# Altium integrated library Texas Instruments Interface RS-422.IntLib: 548 symbols (part 11 of 15)
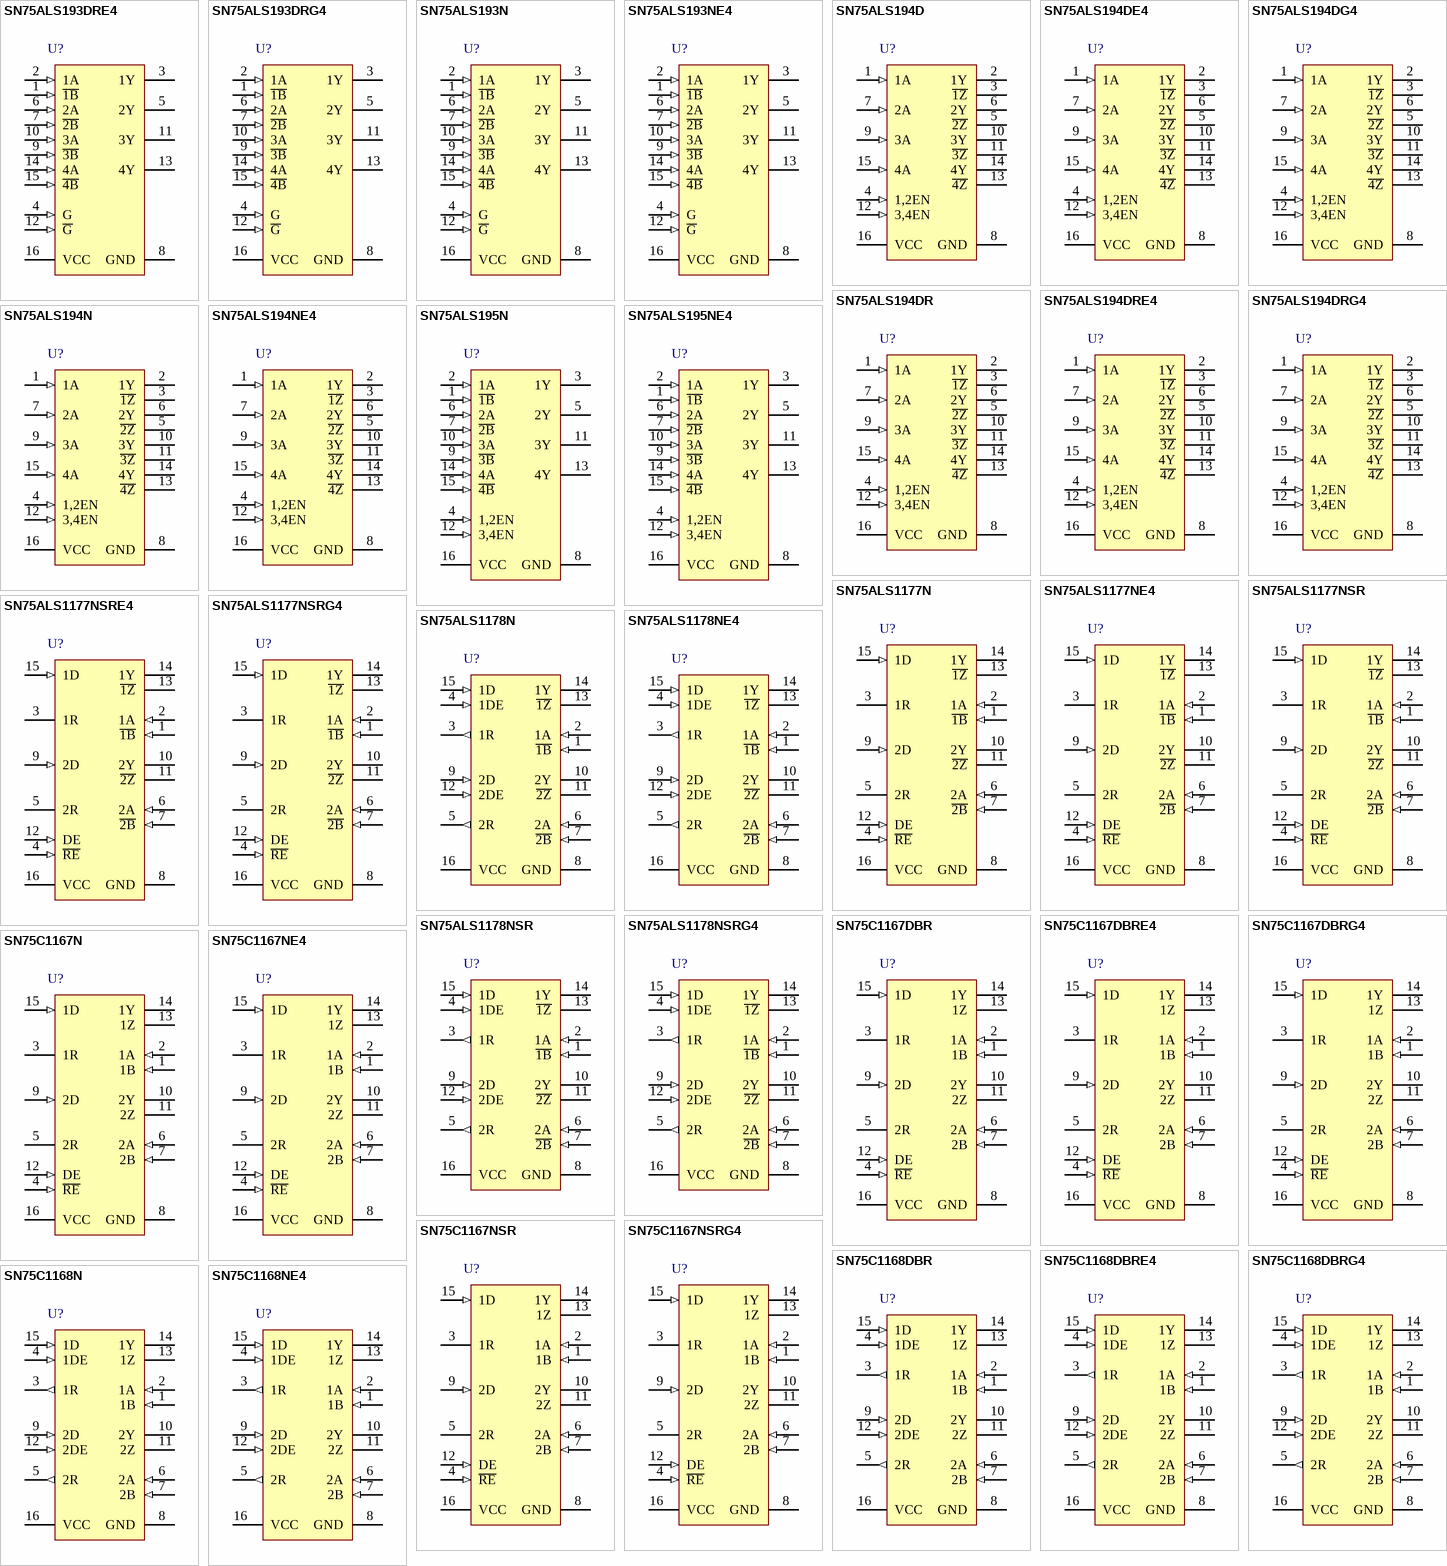
[diagram p25: symbols SN75ALS193DRE4 to SN75C1168NE4]

## SN75ALS1177NSRE4
designator U?
Dual Differential Driver and Receiver, 2 TX / 2 RX, 5V, 0 to 70 degC, 16-Pin SO (NS), Pb-Free (RoHS); PartNumber: SN75ALS1177NSRE4; Manufacturer: Texas Instruments; SubFamily: RS-422; Drivers Per Package: 2; ICC(Max)(mA): 50; Supply Voltage(s)(V): 5; Isolated: No; Rating: Catalog; DatasheetVersion: SLLS154B; PackageVersion: revC, Mar-2003; PackageReference: NS16; PackageDescription: 16-Pin Plastic Small Outline Package, 10.2 x 5.3 mm, Pitch 1.27 mm Pitch; Mounting Technology: Surface Mount; Eco-Plan: Pb-Free (RoHS); Receivers Per Package: 2; # of TX/RX: 2 TX / 2 RX; ESD(kV): 2; Footprint: MC34050; ComponentLink1Description: Datasheet; ComponentLink1URL: http://www.ti.com/general/docs/lit/getliterature.tsp?genericPartNumber=SN75ALS1177&fileType=pdf; ComponentLink2Description: Package Specification; ComponentLink2URL: http://www.ti.com/litv/pdf/msop002a
footprint NS16_N (SOP, 16-Leads, Body 10.2x5.3mm, Pitch 1.27mm, IPC Medium Density)
footprint NS16_L (SOP, 16-Leads, Body 10.2x5.3mm, Pitch 1.27mm, IPC High Density)
footprint NS16_M (SOP, 16-Leads, Body 10.2x5.3mm, Pitch 1.27mm, IPC Low Density)
pins: 1 ~{1B} (in), 2 1A (in), 3 1R (hiz), 4 ~{RE} (in), 5 2R (hiz), 6 2A (in), 7 ~{2B} (in), 8 GND (power), 9 2D (in), 10 2Y (hiz), 11 ~{2Z} (hiz), 12 DE (in), 13 ~{1Z} (hiz), 14 1Y (hiz), 15 1D (in), 16 VCC (power)

## SN75ALS1177NSRG4
designator U?
Dual Differential Driver and Receiver, 2 TX / 2 RX, 5V, 0 to 70 degC, 16-Pin SO (NS), Pb-Free (RoHS); PartNumber: SN75ALS1177NSRG4; Manufacturer: Texas Instruments; SubFamily: RS-422; Drivers Per Package: 2; ICC(Max)(mA): 50; Supply Voltage(s)(V): 5; Isolated: No; Rating: Catalog; DatasheetVersion: SLLS154B; PackageVersion: revC, Mar-2003; PackageReference: NS16; PackageDescription: 16-Pin Plastic Small Outline Package, 10.2 x 5.3 mm, Pitch 1.27 mm Pitch; Mounting Technology: Surface Mount; Eco-Plan: Pb-Free (RoHS); Receivers Per Package: 2; # of TX/RX: 2 TX / 2 RX; ESD(kV): 2; Footprint: MC34050; ComponentLink1Description: Datasheet; ComponentLink1URL: http://www.ti.com/general/docs/lit/getliterature.tsp?genericPartNumber=SN75ALS1177&fileType=pdf; ComponentLink2Description: Package Specification; ComponentLink2URL: http://www.ti.com/litv/pdf/msop002a
footprint NS16_N (SOP, 16-Leads, Body 10.2x5.3mm, Pitch 1.27mm, IPC Medium Density)
footprint NS16_L (SOP, 16-Leads, Body 10.2x5.3mm, Pitch 1.27mm, IPC High Density)
footprint NS16_M (SOP, 16-Leads, Body 10.2x5.3mm, Pitch 1.27mm, IPC Low Density)
pins: 1 ~{1B} (in), 2 1A (in), 3 1R (hiz), 4 ~{RE} (in), 5 2R (hiz), 6 2A (in), 7 ~{2B} (in), 8 GND (power), 9 2D (in), 10 2Y (hiz), 11 ~{2Z} (hiz), 12 DE (in), 13 ~{1Z} (hiz), 14 1Y (hiz), 15 1D (in), 16 VCC (power)

## SN75ALS1178N
designator U?
Dual Differential Driver and Receiver, 2 TX / 2 RX, 5V, 0 to 70 degC, 16-Pin PDIP (N), Pb-Free (RoHS); PartNumber: SN75ALS1178N; Manufacturer: Texas Instruments; SubFamily: RS-422; Drivers Per Package: 2; ICC(Max)(mA): 50; Supply Voltage(s)(V): 5; Isolated: No; Rating: Catalog; DatasheetVersion: SLLS154B; PackageVersion: revE, Dec-2002; PackageReference: N16; PackageDescription: 16-Pin Plastic Dual-In-Line Package, Row Spacing 7.62 mm, Pitch 2.54 mm; Mounting Technology: Through-hole; Eco-Plan: Pb-Free (RoHS); Receivers Per Package: 2; # of TX/RX: 2 TX / 2 RX; ESD(kV): 2; Footprint: MC34051; Code_JEDEC: MS-001*; ComponentLink1Description: Datasheet; ComponentLink1URL: http://www.ti.com/general/docs/lit/getliterature.tsp?genericPartNumber=SN75ALS1178&fileType=pdf; ComponentLink2Description: Package Specification; ComponentLink2URL: http://www.ti.com/lit/ml/mpdi002c/mpdi002c.pdf
footprint N16 (DIP, 16-Leads, Row Spacing 7.62mm, Pitch 2.54mm, Body 19.3x6.4mm)
pins: 1 ~{1B} (in), 2 1A (in), 3 1R (out), 4 1DE (in), 5 2R (out), 6 2A (in), 7 ~{2B} (in), 8 GND (power), 9 2D (in), 10 2Y (hiz), 11 ~{2Z} (hiz), 12 2DE (in), 13 ~{1Z} (hiz), 14 1Y (hiz), 15 1D (in), 16 VCC (power)

## SN75ALS1178NE4
designator U?
Dual Differential Driver and Receiver, 2 TX / 2 RX, 5V, 0 to 70 degC, 16-Pin PDIP (N), Pb-Free (RoHS); PartNumber: SN75ALS1178NE4; Manufacturer: Texas Instruments; SubFamily: RS-422; Drivers Per Package: 2; ICC(Max)(mA): 50; Supply Voltage(s)(V): 5; Isolated: No; Rating: Catalog; DatasheetVersion: SLLS154B; PackageVersion: revE, Dec-2002; PackageReference: N16; PackageDescription: 16-Pin Plastic Dual-In-Line Package, Row Spacing 7.62 mm, Pitch 2.54 mm; Mounting Technology: Through-hole; Eco-Plan: Pb-Free (RoHS); Receivers Per Package: 2; # of TX/RX: 2 TX / 2 RX; ESD(kV): 2; Footprint: MC34051; Code_JEDEC: MS-001*; ComponentLink1Description: Datasheet; ComponentLink1URL: http://www.ti.com/general/docs/lit/getliterature.tsp?genericPartNumber=SN75ALS1178&fileType=pdf; ComponentLink2Description: Package Specification; ComponentLink2URL: http://www.ti.com/lit/ml/mpdi002c/mpdi002c.pdf
footprint N16 (DIP, 16-Leads, Row Spacing 7.62mm, Pitch 2.54mm, Body 19.3x6.4mm)
pins: 1 ~{1B} (in), 2 1A (in), 3 1R (out), 4 1DE (in), 5 2R (out), 6 2A (in), 7 ~{2B} (in), 8 GND (power), 9 2D (in), 10 2Y (hiz), 11 ~{2Z} (hiz), 12 2DE (in), 13 ~{1Z} (hiz), 14 1Y (hiz), 15 1D (in), 16 VCC (power)

## SN75ALS1178NSR
designator U?
Dual Differential Driver and Receiver, 2 TX / 2 RX, 5V, 0 to 70 degC, 16-Pin SO (NS), Green (RoHS & no Sb/Br); PartNumber: SN75ALS1178NSR; Manufacturer: Texas Instruments; Eco-Plan: Pb-Free (RoHS); SubFamily: RS-422; Drivers Per Package: 2; ICC(Max)(mA): 50; Supply Voltage(s)(V): 5; Rating: Catalog; DatasheetVersion: SLLS154B; PackageVersion: revC, Mar-2003; PackageReference: NS16; PackageDescription: 16-Pin Plastic Small Outline Package, 10.2 x 5.3 mm, Pitch 1.27 mm Pitch; Mounting Technology: Surface Mount; Receivers Per Package: 2; # of TX/RX: 2 TX / 2 RX; ESD(kV): 2; Footprint: MC34051; Isolated: No; ComponentLink1Description: Datasheet; ComponentLink1URL: http://www.ti.com/general/docs/lit/getliterature.tsp?genericPartNumber=SN75ALS1178&fileType=pdf; ComponentLink2Description: Package Specification; ComponentLink2URL: http://www.ti.com/litv/pdf/msop002a
footprint NS16_N (SOP, 16-Leads, Body 10.2x5.3mm, Pitch 1.27mm, IPC Medium Density)
footprint NS16_L (SOP, 16-Leads, Body 10.2x5.3mm, Pitch 1.27mm, IPC High Density)
footprint NS16_M (SOP, 16-Leads, Body 10.2x5.3mm, Pitch 1.27mm, IPC Low Density)
pins: 1 ~{1B} (in), 2 1A (in), 3 1R (out), 4 1DE (in), 5 2R (out), 6 2A (in), 7 ~{2B} (in), 8 GND (power), 9 2D (in), 10 2Y (hiz), 11 ~{2Z} (hiz), 12 2DE (in), 13 ~{1Z} (hiz), 14 1Y (hiz), 15 1D (in), 16 VCC (power)

## SN75ALS1178NSRG4
designator U?
Dual Differential Driver and Receiver, 2 TX / 2 RX, 5V, 0 to 70 degC, 16-Pin SO (NS), Green (RoHS & no Sb/Br); PartNumber: SN75ALS1178NSRG4; Manufacturer: Texas Instruments; Eco-Plan: Pb-Free (RoHS); SubFamily: RS-422; Drivers Per Package: 2; ICC(Max)(mA): 50; Supply Voltage(s)(V): 5; Rating: Catalog; DatasheetVersion: SLLS154B; PackageVersion: revC, Mar-2003; PackageReference: NS16; PackageDescription: 16-Pin Plastic Small Outline Package, 10.2 x 5.3 mm, Pitch 1.27 mm Pitch; Mounting Technology: Surface Mount; Receivers Per Package: 2; # of TX/RX: 2 TX / 2 RX; ESD(kV): 2; Footprint: MC34051; Isolated: No; ComponentLink1Description: Datasheet; ComponentLink1URL: http://www.ti.com/general/docs/lit/getliterature.tsp?genericPartNumber=SN75ALS1178&fileType=pdf; ComponentLink2Description: Package Specification; ComponentLink2URL: http://www.ti.com/litv/pdf/msop002a
footprint NS16_N (SOP, 16-Leads, Body 10.2x5.3mm, Pitch 1.27mm, IPC Medium Density)
footprint NS16_L (SOP, 16-Leads, Body 10.2x5.3mm, Pitch 1.27mm, IPC High Density)
footprint NS16_M (SOP, 16-Leads, Body 10.2x5.3mm, Pitch 1.27mm, IPC Low Density)
pins: 1 ~{1B} (in), 2 1A (in), 3 1R (out), 4 1DE (in), 5 2R (out), 6 2A (in), 7 ~{2B} (in), 8 GND (power), 9 2D (in), 10 2Y (hiz), 11 ~{2Z} (hiz), 12 2DE (in), 13 ~{1Z} (hiz), 14 1Y (hiz), 15 1D (in), 16 VCC (power)

## SN75C1167DBR
designator U?
Dual Differential Driver and Receiver, 2 TX / 2 RX, 5V, 0 to 70 degC, 16-Pin SSOP (DB), Green (RoHS & no Sb/Br); PartNumber: SN75C1167DBR; Manufacturer: Texas Instruments; SubFamily: RS-422; Drivers Per Package: 2; ICC(Max)(mA): 9; Supply Voltage(s)(V): 5; Rating: Catalog; DatasheetVersion: SLLS159F; PackageVersion: revE, Dec-2001; PackageReference: DB16; PackageDescription: 16-Pin Plastic Small Outline Package, 6.2 x 5.3 mm Body, 0.65 mm Pitch; Mounting Technology: Surface Mount; Eco-Plan: Green (RoHS & no Sb/Br); Receivers Per Package: 2; # of TX/RX: 2 TX / 2 RX; ESD(kV): 2; Footprint: MC34050; Code_JEDEC: MO-150; ComponentLink1Description: Datasheet; ComponentLink1URL: http://www.ti.com/general/docs/lit/getliterature.tsp?genericPartNumber=SN75C1167&fileType=pdf; ComponentLink2Description: Package Specification; ComponentLink2URL: http://www.ti.com/lit/ml/msso002e/msso002e.pdf
footprint DB16_N (SOP, 16-Leads, Body 6.2x5.3mm, Pitch 0.65mm, IPC Medium Density)
footprint DB16_L (SOP, 16-Leads, Body 6.2x5.3mm, Pitch 0.65mm, IPC High Density)
footprint DB16_M (SOP, 16-Leads, Body 6.2x5.3mm, Pitch 0.65mm, IPC Low Density)
pins: 1 1B (in), 2 1A (in), 3 1R (hiz), 4 ~{RE} (in), 5 2R (hiz), 6 2A (in), 7 2B (in), 8 GND (power), 9 2D (in), 10 2Y (hiz), 11 2Z (hiz), 12 DE (in), 13 1Z (hiz), 14 1Y (hiz), 15 1D (in), 16 VCC (power)

## SN75C1167DBRE4
designator U?
Dual Differential Driver and Receiver, 2 TX / 2 RX, 5V, 0 to 70 degC, 16-Pin SSOP (DB), Green (RoHS & no Sb/Br); PartNumber: SN75C1167DBRE4; Manufacturer: Texas Instruments; SubFamily: RS-422; Drivers Per Package: 2; ICC(Max)(mA): 9; Supply Voltage(s)(V): 5; Rating: Catalog; DatasheetVersion: SLLS159F; PackageVersion: revE, Dec-2001; PackageReference: DB16; PackageDescription: 16-Pin Plastic Small Outline Package, 6.2 x 5.3 mm Body, 0.65 mm Pitch; Mounting Technology: Surface Mount; Eco-Plan: Green (RoHS & no Sb/Br); Receivers Per Package: 2; # of TX/RX: 2 TX / 2 RX; ESD(kV): 2; Footprint: MC34050; Code_JEDEC: MO-150; ComponentLink1Description: Datasheet; ComponentLink1URL: http://www.ti.com/general/docs/lit/getliterature.tsp?genericPartNumber=SN75C1167&fileType=pdf; ComponentLink2Description: Package Specification; ComponentLink2URL: http://www.ti.com/lit/ml/msso002e/msso002e.pdf
footprint DB16_N (SOP, 16-Leads, Body 6.2x5.3mm, Pitch 0.65mm, IPC Medium Density)
footprint DB16_L (SOP, 16-Leads, Body 6.2x5.3mm, Pitch 0.65mm, IPC High Density)
footprint DB16_M (SOP, 16-Leads, Body 6.2x5.3mm, Pitch 0.65mm, IPC Low Density)
pins: 1 1B (in), 2 1A (in), 3 1R (hiz), 4 ~{RE} (in), 5 2R (hiz), 6 2A (in), 7 2B (in), 8 GND (power), 9 2D (in), 10 2Y (hiz), 11 2Z (hiz), 12 DE (in), 13 1Z (hiz), 14 1Y (hiz), 15 1D (in), 16 VCC (power)

## SN75C1167DBRG4
designator U?
Dual Differential Driver and Receiver, 2 TX / 2 RX, 5V, 0 to 70 degC, 16-Pin SSOP (DB), Green (RoHS & no Sb/Br); PartNumber: SN75C1167DBRG4; Manufacturer: Texas Instruments; SubFamily: RS-422; Drivers Per Package: 2; ICC(Max)(mA): 9; Supply Voltage(s)(V): 5; Rating: Catalog; DatasheetVersion: SLLS159F; PackageVersion: revE, Dec-2001; PackageReference: DB16; PackageDescription: 16-Pin Plastic Small Outline Package, 6.2 x 5.3 mm Body, 0.65 mm Pitch; Mounting Technology: Surface Mount; Eco-Plan: Green (RoHS & no Sb/Br); Receivers Per Package: 2; # of TX/RX: 2 TX / 2 RX; ESD(kV): 2; Footprint: MC34050; Code_JEDEC: MO-150; ComponentLink1Description: Datasheet; ComponentLink1URL: http://www.ti.com/general/docs/lit/getliterature.tsp?genericPartNumber=SN75C1167&fileType=pdf; ComponentLink2Description: Package Specification; ComponentLink2URL: http://www.ti.com/lit/ml/msso002e/msso002e.pdf
footprint DB16_N (SOP, 16-Leads, Body 6.2x5.3mm, Pitch 0.65mm, IPC Medium Density)
footprint DB16_L (SOP, 16-Leads, Body 6.2x5.3mm, Pitch 0.65mm, IPC High Density)
footprint DB16_M (SOP, 16-Leads, Body 6.2x5.3mm, Pitch 0.65mm, IPC Low Density)
pins: 1 1B (in), 2 1A (in), 3 1R (hiz), 4 ~{RE} (in), 5 2R (hiz), 6 2A (in), 7 2B (in), 8 GND (power), 9 2D (in), 10 2Y (hiz), 11 2Z (hiz), 12 DE (in), 13 1Z (hiz), 14 1Y (hiz), 15 1D (in), 16 VCC (power)

## SN75C1167N
designator U?
Dual Differential Driver and Receiver, 2 TX / 2 RX, 5V, 0 to 70 degC, 16-Pin PDIP (N), Green (RoHS & no Sb/Br); PartNumber: SN75C1167N; Manufacturer: Texas Instruments; SubFamily: RS-422; Drivers Per Package: 2; ICC(Max)(mA): 9; Supply Voltage(s)(V): 5; Rating: Catalog; DatasheetVersion: SLLS159F; PackageVersion: revE, Dec-2002; PackageReference: N16; PackageDescription: 16-Pin Plastic Dual-In-Line Package, Row Spacing 7.62 mm, Pitch 2.54 mm; Mounting Technology: Through-hole; Eco-Plan: Green (RoHS & no Sb/Br); Receivers Per Package: 2; # of TX/RX: 2 TX / 2 RX; ESD(kV): 2; Footprint: MC34050; Code_JEDEC: MS-001*; ComponentLink1Description: Datasheet; ComponentLink1URL: http://www.ti.com/general/docs/lit/getliterature.tsp?genericPartNumber=SN75C1167&fileType=pdf; ComponentLink2Description: Package Specification; ComponentLink2URL: http://www.ti.com/lit/ml/mpdi002c/mpdi002c.pdf
footprint N16 (DIP, 16-Leads, Row Spacing 7.62mm, Pitch 2.54mm, Body 19.3x6.4mm)
pins: 1 1B (in), 2 1A (in), 3 1R (hiz), 4 ~{RE} (in), 5 2R (hiz), 6 2A (in), 7 2B (in), 8 GND (power), 9 2D (in), 10 2Y (hiz), 11 2Z (hiz), 12 DE (in), 13 1Z (hiz), 14 1Y (hiz), 15 1D (in), 16 VCC (power)

## SN75C1167NE4
designator U?
Dual Differential Driver and Receiver, 2 TX / 2 RX, 5V, 0 to 70 degC, 16-Pin PDIP (N), Green (RoHS & no Sb/Br); PartNumber: SN75C1167NE4; Manufacturer: Texas Instruments; SubFamily: RS-422; Drivers Per Package: 2; ICC(Max)(mA): 9; Supply Voltage(s)(V): 5; Rating: Catalog; DatasheetVersion: SLLS159F; PackageVersion: revE, Dec-2002; PackageReference: N16; PackageDescription: 16-Pin Plastic Dual-In-Line Package, Row Spacing 7.62 mm, Pitch 2.54 mm; Mounting Technology: Through-hole; Eco-Plan: Green (RoHS & no Sb/Br); Receivers Per Package: 2; # of TX/RX: 2 TX / 2 RX; ESD(kV): 2; Footprint: MC34050; Code_JEDEC: MS-001*; ComponentLink1Description: Datasheet; ComponentLink1URL: http://www.ti.com/general/docs/lit/getliterature.tsp?genericPartNumber=SN75C1167&fileType=pdf; ComponentLink2Description: Package Specification; ComponentLink2URL: http://www.ti.com/lit/ml/mpdi002c/mpdi002c.pdf
footprint N16 (DIP, 16-Leads, Row Spacing 7.62mm, Pitch 2.54mm, Body 19.3x6.4mm)
pins: 1 1B (in), 2 1A (in), 3 1R (hiz), 4 ~{RE} (in), 5 2R (hiz), 6 2A (in), 7 2B (in), 8 GND (power), 9 2D (in), 10 2Y (hiz), 11 2Z (hiz), 12 DE (in), 13 1Z (hiz), 14 1Y (hiz), 15 1D (in), 16 VCC (power)

## SN75C1167NSR
designator U?
Dual Differential Driver and Receiver, 2 TX / 2 RX, 5V, 0 to 70 degC, 16-Pin SO (NS), Green (RoHS & no Sb/Br); PartNumber: SN75C1167NSR; Manufacturer: Texas Instruments; SubFamily: RS-422; Drivers Per Package: 2; ICC(Max)(mA): 9; Supply Voltage(s)(V): 5; Rating: Catalog; DatasheetVersion: SLLS159F; PackageVersion: revC, Mar-2003; PackageReference: NS16; PackageDescription: 16-Pin Plastic Small Outline Package, 10.2 x 5.3 mm, Pitch 1.27 mm Pitch; Mounting Technology: Surface Mount; Eco-Plan: Green (RoHS & no Sb/Br); Receivers Per Package: 2; # of TX/RX: 2 TX / 2 RX; ESD(kV): 2; Footprint: MC34050; ComponentLink1Description: Datasheet; ComponentLink1URL: http://www.ti.com/general/docs/lit/getliterature.tsp?genericPartNumber=SN75C1167&fileType=pdf; ComponentLink2Description: Package Specification; ComponentLink2URL: http://www.ti.com/litv/pdf/msop002a
footprint NS16_N (SOP, 16-Leads, Body 10.2x5.3mm, Pitch 1.27mm, IPC Medium Density)
footprint NS16_L (SOP, 16-Leads, Body 10.2x5.3mm, Pitch 1.27mm, IPC High Density)
footprint NS16_M (SOP, 16-Leads, Body 10.2x5.3mm, Pitch 1.27mm, IPC Low Density)
pins: 1 1B (in), 2 1A (in), 3 1R (hiz), 4 ~{RE} (in), 5 2R (hiz), 6 2A (in), 7 2B (in), 8 GND (power), 9 2D (in), 10 2Y (hiz), 11 2Z (hiz), 12 DE (in), 13 1Z (hiz), 14 1Y (hiz), 15 1D (in), 16 VCC (power)

## SN75C1167NSRG4
designator U?
Dual Differential Driver and Receiver, 2 TX / 2 RX, 5V, 0 to 70 degC, 16-Pin SO (NS), Green (RoHS & no Sb/Br); PartNumber: SN75C1167NSRG4; Manufacturer: Texas Instruments; SubFamily: RS-422; Drivers Per Package: 2; ICC(Max)(mA): 9; Supply Voltage(s)(V): 5; Rating: Catalog; DatasheetVersion: SLLS159F; PackageVersion: revC, Mar-2003; PackageReference: NS16; PackageDescription: 16-Pin Plastic Small Outline Package, 10.2 x 5.3 mm, Pitch 1.27 mm Pitch; Mounting Technology: Surface Mount; Eco-Plan: Green (RoHS & no Sb/Br); Receivers Per Package: 2; # of TX/RX: 2 TX / 2 RX; ESD(kV): 2; Footprint: MC34050; ComponentLink1Description: Datasheet; ComponentLink1URL: http://www.ti.com/general/docs/lit/getliterature.tsp?genericPartNumber=SN75C1167&fileType=pdf; ComponentLink2Description: Package Specification; ComponentLink2URL: http://www.ti.com/litv/pdf/msop002a
footprint NS16_N (SOP, 16-Leads, Body 10.2x5.3mm, Pitch 1.27mm, IPC Medium Density)
footprint NS16_L (SOP, 16-Leads, Body 10.2x5.3mm, Pitch 1.27mm, IPC High Density)
footprint NS16_M (SOP, 16-Leads, Body 10.2x5.3mm, Pitch 1.27mm, IPC Low Density)
pins: 1 1B (in), 2 1A (in), 3 1R (hiz), 4 ~{RE} (in), 5 2R (hiz), 6 2A (in), 7 2B (in), 8 GND (power), 9 2D (in), 10 2Y (hiz), 11 2Z (hiz), 12 DE (in), 13 1Z (hiz), 14 1Y (hiz), 15 1D (in), 16 VCC (power)

## SN75C1168DBR
designator U?
Dual Differential Driver and Receiver, 2 TX / 2 RX, 5V, 0 to 70 degC, 16-Pin SSOP (DB), Green (RoHS & no Sb/Br); PartNumber: SN75C1168DBR; Manufacturer: Texas Instruments; SubFamily: RS-422; Drivers Per Package: 2; ICC(Max)(mA): 9; Supply Voltage(s)(V): 5; Rating: Catalog; DatasheetVersion: SLLS159F; PackageVersion: revE, Dec-2001; PackageReference: DB16; PackageDescription: 16-Pin Plastic Small Outline Package, 6.2 x 5.3 mm Body, 0.65 mm Pitch; Mounting Technology: Surface Mount; Eco-Plan: Green (RoHS & no Sb/Br); Receivers Per Package: 2; # of TX/RX: 2 TX / 2 RX; ESD(kV): 2; Footprint: MC34051; Code_JEDEC: MO-150; ComponentLink1Description: Datasheet; ComponentLink1URL: http://www.ti.com/general/docs/lit/getliterature.tsp?genericPartNumber=SN75C1168&fileType=pdf; ComponentLink2Description: Package Specification; ComponentLink2URL: http://www.ti.com/lit/ml/msso002e/msso002e.pdf
footprint DB16_N (SOP, 16-Leads, Body 6.2x5.3mm, Pitch 0.65mm, IPC Medium Density)
footprint DB16_L (SOP, 16-Leads, Body 6.2x5.3mm, Pitch 0.65mm, IPC High Density)
footprint DB16_M (SOP, 16-Leads, Body 6.2x5.3mm, Pitch 0.65mm, IPC Low Density)
pins: 1 1B (in), 2 1A (in), 3 1R (out), 4 1DE (in), 5 2R (out), 6 2A (in), 7 2B (in), 8 GND (power), 9 2D (in), 10 2Y (hiz), 11 2Z (hiz), 12 2DE (in), 13 1Z (hiz), 14 1Y (hiz), 15 1D (in), 16 VCC (power)

## SN75C1168DBRE4
designator U?
Dual Differential Driver and Receiver, 2 TX / 2 RX, 5V, 0 to 70 degC, 16-Pin SSOP (DB), Green (RoHS & no Sb/Br); PartNumber: SN75C1168DBRE4; Manufacturer: Texas Instruments; SubFamily: RS-422; Drivers Per Package: 2; ICC(Max)(mA): 9; Supply Voltage(s)(V): 5; Rating: Catalog; DatasheetVersion: SLLS159F; PackageVersion: revE, Dec-2001; PackageReference: DB16; PackageDescription: 16-Pin Plastic Small Outline Package, 6.2 x 5.3 mm Body, 0.65 mm Pitch; Mounting Technology: Surface Mount; Eco-Plan: Green (RoHS & no Sb/Br); Receivers Per Package: 2; # of TX/RX: 2 TX / 2 RX; ESD(kV): 2; Footprint: MC34051; Code_JEDEC: MO-150; ComponentLink1Description: Datasheet; ComponentLink1URL: http://www.ti.com/general/docs/lit/getliterature.tsp?genericPartNumber=SN75C1168&fileType=pdf; ComponentLink2Description: Package Specification; ComponentLink2URL: http://www.ti.com/lit/ml/msso002e/msso002e.pdf
footprint DB16_N (SOP, 16-Leads, Body 6.2x5.3mm, Pitch 0.65mm, IPC Medium Density)
footprint DB16_L (SOP, 16-Leads, Body 6.2x5.3mm, Pitch 0.65mm, IPC High Density)
footprint DB16_M (SOP, 16-Leads, Body 6.2x5.3mm, Pitch 0.65mm, IPC Low Density)
pins: 1 1B (in), 2 1A (in), 3 1R (out), 4 1DE (in), 5 2R (out), 6 2A (in), 7 2B (in), 8 GND (power), 9 2D (in), 10 2Y (hiz), 11 2Z (hiz), 12 2DE (in), 13 1Z (hiz), 14 1Y (hiz), 15 1D (in), 16 VCC (power)

## SN75C1168DBRG4
designator U?
Dual Differential Driver and Receiver, 2 TX / 2 RX, 5V, 0 to 70 degC, 16-Pin SSOP (DB), Green (RoHS & no Sb/Br); PartNumber: SN75C1168DBRG4; Manufacturer: Texas Instruments; SubFamily: RS-422; Drivers Per Package: 2; ICC(Max)(mA): 9; Supply Voltage(s)(V): 5; Rating: Catalog; DatasheetVersion: SLLS159F; PackageVersion: revE, Dec-2001; PackageReference: DB16; PackageDescription: 16-Pin Plastic Small Outline Package, 6.2 x 5.3 mm Body, 0.65 mm Pitch; Mounting Technology: Surface Mount; Eco-Plan: Green (RoHS & no Sb/Br); Receivers Per Package: 2; # of TX/RX: 2 TX / 2 RX; ESD(kV): 2; Footprint: MC34051; Code_JEDEC: MO-150; ComponentLink1Description: Datasheet; ComponentLink1URL: http://www.ti.com/general/docs/lit/getliterature.tsp?genericPartNumber=SN75C1168&fileType=pdf; ComponentLink2Description: Package Specification; ComponentLink2URL: http://www.ti.com/lit/ml/msso002e/msso002e.pdf
footprint DB16_N (SOP, 16-Leads, Body 6.2x5.3mm, Pitch 0.65mm, IPC Medium Density)
footprint DB16_L (SOP, 16-Leads, Body 6.2x5.3mm, Pitch 0.65mm, IPC High Density)
footprint DB16_M (SOP, 16-Leads, Body 6.2x5.3mm, Pitch 0.65mm, IPC Low Density)
pins: 1 1B (in), 2 1A (in), 3 1R (out), 4 1DE (in), 5 2R (out), 6 2A (in), 7 2B (in), 8 GND (power), 9 2D (in), 10 2Y (hiz), 11 2Z (hiz), 12 2DE (in), 13 1Z (hiz), 14 1Y (hiz), 15 1D (in), 16 VCC (power)

## SN75C1168N
designator U?
Dual Differential Driver and Receiver, 2 TX / 2 RX, 5V, 0 to 70 degC, 16-Pin PDIP (N), Green (RoHS & no Sb/Br); PartNumber: SN75C1168N; Manufacturer: Texas Instruments; SubFamily: RS-422; Drivers Per Package: 2; ICC(Max)(mA): 9; Supply Voltage(s)(V): 5; Rating: Catalog; DatasheetVersion: SLLS159F; PackageVersion: revE, Dec-2002; PackageReference: N16; PackageDescription: 16-Pin Plastic Dual-In-Line Package, Row Spacing 7.62 mm, Pitch 2.54 mm; Mounting Technology: Through-hole; Eco-Plan: Green (RoHS & no Sb/Br); Receivers Per Package: 2; # of TX/RX: 2 TX / 2 RX; ESD(kV): 2; Footprint: MC34051; Code_JEDEC: MS-001*; ComponentLink1Description: Datasheet; ComponentLink1URL: http://www.ti.com/general/docs/lit/getliterature.tsp?genericPartNumber=SN75C1168&fileType=pdf; ComponentLink2Description: Package Specification; ComponentLink2URL: http://www.ti.com/lit/ml/mpdi002c/mpdi002c.pdf
footprint N16 (DIP, 16-Leads, Row Spacing 7.62mm, Pitch 2.54mm, Body 19.3x6.4mm)
pins: 1 1B (in), 2 1A (in), 3 1R (out), 4 1DE (in), 5 2R (out), 6 2A (in), 7 2B (in), 8 GND (power), 9 2D (in), 10 2Y (hiz), 11 2Z (hiz), 12 2DE (in), 13 1Z (hiz), 14 1Y (hiz), 15 1D (in), 16 VCC (power)

## SN75C1168NE4
designator U?
Dual Differential Driver and Receiver, 2 TX / 2 RX, 5V, 0 to 70 degC, 16-Pin PDIP (N), Green (RoHS & no Sb/Br); PartNumber: SN75C1168NE4; Manufacturer: Texas Instruments; SubFamily: RS-422; Drivers Per Package: 2; ICC(Max)(mA): 9; Supply Voltage(s)(V): 5; Rating: Catalog; DatasheetVersion: SLLS159F; PackageVersion: revE, Dec-2002; PackageReference: N16; PackageDescription: 16-Pin Plastic Dual-In-Line Package, Row Spacing 7.62 mm, Pitch 2.54 mm; Mounting Technology: Through-hole; Eco-Plan: Green (RoHS & no Sb/Br); Receivers Per Package: 2; # of TX/RX: 2 TX / 2 RX; ESD(kV): 2; Footprint: MC34051; Code_JEDEC: MS-001*; ComponentLink1Description: Datasheet; ComponentLink1URL: http://www.ti.com/general/docs/lit/getliterature.tsp?genericPartNumber=SN75C1168&fileType=pdf; ComponentLink2Description: Package Specification; ComponentLink2URL: http://www.ti.com/lit/ml/mpdi002c/mpdi002c.pdf
footprint N16 (DIP, 16-Leads, Row Spacing 7.62mm, Pitch 2.54mm, Body 19.3x6.4mm)
pins: 1 1B (in), 2 1A (in), 3 1R (out), 4 1DE (in), 5 2R (out), 6 2A (in), 7 2B (in), 8 GND (power), 9 2D (in), 10 2Y (hiz), 11 2Z (hiz), 12 2DE (in), 13 1Z (hiz), 14 1Y (hiz), 15 1D (in), 16 VCC (power)

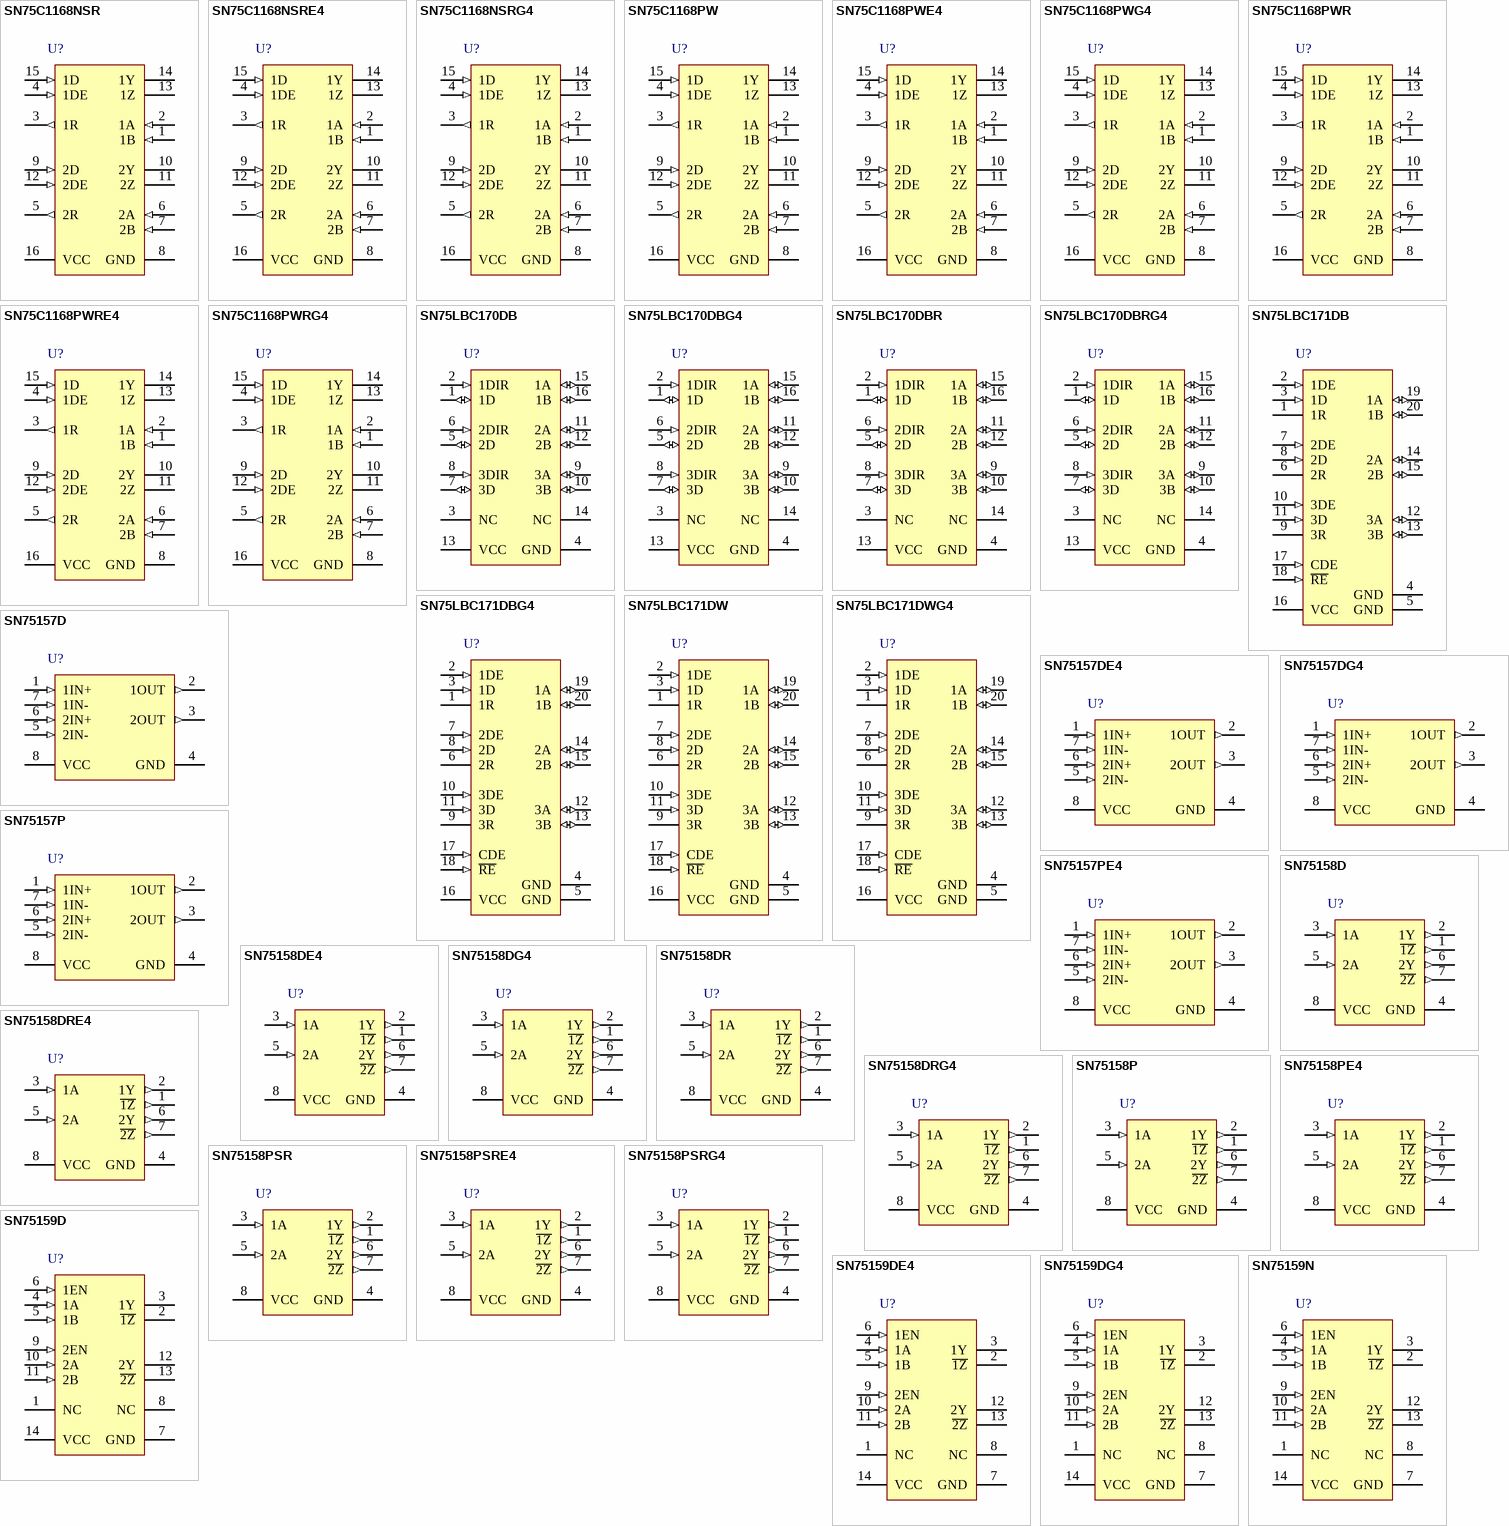
[diagram p11: symbols SN75C1168NSR to SN75159N]

## SN75C1168NSR
designator U?
Dual Differential Driver and Receiver, 2 TX / 2 RX, 5V, 0 to 70 degC, 16-Pin SO (NS), Green (RoHS & no Sb/Br); PartNumber: SN75C1168NSR; Manufacturer: Texas Instruments; SubFamily: RS-422; Drivers Per Package: 2; ICC(Max)(mA): 9; Supply Voltage(s)(V): 5; Rating: Catalog; DatasheetVersion: SLLS159F; PackageVersion: revC, Mar-2003; PackageReference: NS16; PackageDescription: 16-Pin Plastic Small Outline Package, 10.2 x 5.3 mm, Pitch 1.27 mm Pitch; Mounting Technology: Surface Mount; Eco-Plan: Green (RoHS & no Sb/Br); Receivers Per Package: 2; # of TX/RX: 2 TX / 2 RX; ESD(kV): 2; Footprint: MC34051; ComponentLink1Description: Datasheet; ComponentLink1URL: http://www.ti.com/general/docs/lit/getliterature.tsp?genericPartNumber=SN75C1168&fileType=pdf; ComponentLink2Description: Package Specification; ComponentLink2URL: http://www.ti.com/litv/pdf/msop002a
footprint NS16_N (SOP, 16-Leads, Body 10.2x5.3mm, Pitch 1.27mm, IPC Medium Density)
footprint NS16_L (SOP, 16-Leads, Body 10.2x5.3mm, Pitch 1.27mm, IPC High Density)
footprint NS16_M (SOP, 16-Leads, Body 10.2x5.3mm, Pitch 1.27mm, IPC Low Density)
pins: 1 1B (in), 2 1A (in), 3 1R (out), 4 1DE (in), 5 2R (out), 6 2A (in), 7 2B (in), 8 GND (power), 9 2D (in), 10 2Y (hiz), 11 2Z (hiz), 12 2DE (in), 13 1Z (hiz), 14 1Y (hiz), 15 1D (in), 16 VCC (power)

## SN75C1168NSRE4
designator U?
Dual Differential Driver and Receiver, 2 TX / 2 RX, 5V, 0 to 70 degC, 16-Pin SO (NS), Green (RoHS & no Sb/Br); PartNumber: SN75C1168NSRE4; Manufacturer: Texas Instruments; SubFamily: RS-422; Drivers Per Package: 2; ICC(Max)(mA): 9; Supply Voltage(s)(V): 5; Rating: Catalog; DatasheetVersion: SLLS159F; PackageVersion: revC, Mar-2003; PackageReference: NS16; PackageDescription: 16-Pin Plastic Small Outline Package, 10.2 x 5.3 mm, Pitch 1.27 mm Pitch; Mounting Technology: Surface Mount; Eco-Plan: Green (RoHS & no Sb/Br); Receivers Per Package: 2; # of TX/RX: 2 TX / 2 RX; ESD(kV): 2; Footprint: MC34051; ComponentLink1Description: Datasheet; ComponentLink1URL: http://www.ti.com/general/docs/lit/getliterature.tsp?genericPartNumber=SN75C1168&fileType=pdf; ComponentLink2Description: Package Specification; ComponentLink2URL: http://www.ti.com/litv/pdf/msop002a
footprint NS16_N (SOP, 16-Leads, Body 10.2x5.3mm, Pitch 1.27mm, IPC Medium Density)
footprint NS16_L (SOP, 16-Leads, Body 10.2x5.3mm, Pitch 1.27mm, IPC High Density)
footprint NS16_M (SOP, 16-Leads, Body 10.2x5.3mm, Pitch 1.27mm, IPC Low Density)
pins: 1 1B (in), 2 1A (in), 3 1R (out), 4 1DE (in), 5 2R (out), 6 2A (in), 7 2B (in), 8 GND (power), 9 2D (in), 10 2Y (hiz), 11 2Z (hiz), 12 2DE (in), 13 1Z (hiz), 14 1Y (hiz), 15 1D (in), 16 VCC (power)

## SN75C1168NSRG4
designator U?
Dual Differential Driver and Receiver, 2 TX / 2 RX, 5V, 0 to 70 degC, 16-Pin SO (NS), Green (RoHS & no Sb/Br); PartNumber: SN75C1168NSRG4; Manufacturer: Texas Instruments; SubFamily: RS-422; Drivers Per Package: 2; ICC(Max)(mA): 9; Supply Voltage(s)(V): 5; Rating: Catalog; DatasheetVersion: SLLS159F; PackageVersion: revC, Mar-2003; PackageReference: NS16; PackageDescription: 16-Pin Plastic Small Outline Package, 10.2 x 5.3 mm, Pitch 1.27 mm Pitch; Mounting Technology: Surface Mount; Eco-Plan: Green (RoHS & no Sb/Br); Receivers Per Package: 2; # of TX/RX: 2 TX / 2 RX; ESD(kV): 2; Footprint: MC34051; ComponentLink1Description: Datasheet; ComponentLink1URL: http://www.ti.com/general/docs/lit/getliterature.tsp?genericPartNumber=SN75C1168&fileType=pdf; ComponentLink2Description: Package Specification; ComponentLink2URL: http://www.ti.com/litv/pdf/msop002a
footprint NS16_N (SOP, 16-Leads, Body 10.2x5.3mm, Pitch 1.27mm, IPC Medium Density)
footprint NS16_L (SOP, 16-Leads, Body 10.2x5.3mm, Pitch 1.27mm, IPC High Density)
footprint NS16_M (SOP, 16-Leads, Body 10.2x5.3mm, Pitch 1.27mm, IPC Low Density)
pins: 1 1B (in), 2 1A (in), 3 1R (out), 4 1DE (in), 5 2R (out), 6 2A (in), 7 2B (in), 8 GND (power), 9 2D (in), 10 2Y (hiz), 11 2Z (hiz), 12 2DE (in), 13 1Z (hiz), 14 1Y (hiz), 15 1D (in), 16 VCC (power)

## SN75C1168PW
designator U?
Dual Differential Driver and Receiver, 2 TX / 2 RX, 5V, 0 to 70 degC, 16-Pin TSSOP (PW), Green (RoHS & no Sb/Br); PartNumber: SN75C1168PW; Manufacturer: Texas Instruments; SubFamily: RS-422; Drivers Per Package: 2; ICC(Max)(mA): 9; Supply Voltage(s)(V): 5; Rating: Catalog; DatasheetVersion: SLLS159F; PackageVersion: revG, Feb-2011; PackageReference: PW16; PackageDescription: 16-Pin Plastic Thin Small Outline Package 5 x 4.4 mm Body ,0.65 mm Pitch; Mounting Technology: Surface Mount; Eco-Plan: Green (RoHS & no Sb/Br); Receivers Per Package: 2; # of TX/RX: 2 TX / 2 RX; ESD(kV): 2; Footprint: MC34051; Code_JEDEC: MO-153; ComponentLink1Description: Datasheet; ComponentLink1URL: http://www.ti.com/general/docs/lit/getliterature.tsp?genericPartNumber=SN75C1168&fileType=pdf; ComponentLink2Description: Package Specification; ComponentLink2URL: http://www.ti.com/lit/ml/mpds361/mpds361.pdf
footprint PW16_N (TSOP, 16-Leads, Body 5x4.4mm, Pitch 0.65mm, IPC Medium Density)
footprint PW16_L (TSOP, 16-Leads, Body 5x4.4mm, Pitch 0.65mm, IPC High Density)
footprint PW16_M (TSOP, 16-Leads, Body 5x4.4mm, Pitch 0.65mm, IPC Low Density)
pins: 1 1B (in), 2 1A (in), 3 1R (out), 4 1DE (in), 5 2R (out), 6 2A (in), 7 2B (in), 8 GND (power), 9 2D (in), 10 2Y (hiz), 11 2Z (hiz), 12 2DE (in), 13 1Z (hiz), 14 1Y (hiz), 15 1D (in), 16 VCC (power)

## SN75C1168PWE4
designator U?
Dual Differential Driver and Receiver, 2 TX / 2 RX, 5V, 0 to 70 degC, 16-Pin TSSOP (PW), Green (RoHS & no Sb/Br); PartNumber: SN75C1168PWE4; Manufacturer: Texas Instruments; SubFamily: RS-422; Drivers Per Package: 2; ICC(Max)(mA): 9; Supply Voltage(s)(V): 5; Rating: Catalog; DatasheetVersion: SLLS159F; PackageVersion: revG, Feb-2011; PackageReference: PW16; PackageDescription: 16-Pin Plastic Thin Small Outline Package 5 x 4.4 mm Body ,0.65 mm Pitch; Mounting Technology: Surface Mount; Eco-Plan: Green (RoHS & no Sb/Br); Receivers Per Package: 2; # of TX/RX: 2 TX / 2 RX; ESD(kV): 2; Footprint: MC34051; Code_JEDEC: MO-153; ComponentLink1Description: Datasheet; ComponentLink1URL: http://www.ti.com/general/docs/lit/getliterature.tsp?genericPartNumber=SN75C1168&fileType=pdf; ComponentLink2Description: Package Specification; ComponentLink2URL: http://www.ti.com/lit/ml/mpds361/mpds361.pdf
footprint PW16_N (TSOP, 16-Leads, Body 5x4.4mm, Pitch 0.65mm, IPC Medium Density)
footprint PW16_L (TSOP, 16-Leads, Body 5x4.4mm, Pitch 0.65mm, IPC High Density)
footprint PW16_M (TSOP, 16-Leads, Body 5x4.4mm, Pitch 0.65mm, IPC Low Density)
pins: 1 1B (in), 2 1A (in), 3 1R (out), 4 1DE (in), 5 2R (out), 6 2A (in), 7 2B (in), 8 GND (power), 9 2D (in), 10 2Y (hiz), 11 2Z (hiz), 12 2DE (in), 13 1Z (hiz), 14 1Y (hiz), 15 1D (in), 16 VCC (power)

## SN75C1168PWG4
designator U?
Dual Differential Driver and Receiver, 2 TX / 2 RX, 5V, 0 to 70 degC, 16-Pin TSSOP (PW), Green (RoHS & no Sb/Br); PartNumber: SN75C1168PWG4; Manufacturer: Texas Instruments; SubFamily: RS-422; Drivers Per Package: 2; ICC(Max)(mA): 9; Supply Voltage(s)(V): 5; Rating: Catalog; DatasheetVersion: SLLS159F; PackageVersion: revG, Feb-2011; PackageReference: PW16; PackageDescription: 16-Pin Plastic Thin Small Outline Package 5 x 4.4 mm Body ,0.65 mm Pitch; Mounting Technology: Surface Mount; Eco-Plan: Green (RoHS & no Sb/Br); Receivers Per Package: 2; # of TX/RX: 2 TX / 2 RX; ESD(kV): 2; Footprint: MC34051; Code_JEDEC: MO-153; ComponentLink1Description: Datasheet; ComponentLink1URL: http://www.ti.com/general/docs/lit/getliterature.tsp?genericPartNumber=SN75C1168&fileType=pdf; ComponentLink2Description: Package Specification; ComponentLink2URL: http://www.ti.com/lit/ml/mpds361/mpds361.pdf
footprint PW16_N (TSOP, 16-Leads, Body 5x4.4mm, Pitch 0.65mm, IPC Medium Density)
footprint PW16_L (TSOP, 16-Leads, Body 5x4.4mm, Pitch 0.65mm, IPC High Density)
footprint PW16_M (TSOP, 16-Leads, Body 5x4.4mm, Pitch 0.65mm, IPC Low Density)
pins: 1 1B (in), 2 1A (in), 3 1R (out), 4 1DE (in), 5 2R (out), 6 2A (in), 7 2B (in), 8 GND (power), 9 2D (in), 10 2Y (hiz), 11 2Z (hiz), 12 2DE (in), 13 1Z (hiz), 14 1Y (hiz), 15 1D (in), 16 VCC (power)

## SN75C1168PWR
designator U?
Dual Differential Driver and Receiver, 2 TX / 2 RX, 5V, 0 to 70 degC, 16-Pin TSSOP (PW), Green (RoHS & no Sb/Br); PartNumber: SN75C1168PWR; Manufacturer: Texas Instruments; SubFamily: RS-422; Drivers Per Package: 2; ICC(Max)(mA): 9; Supply Voltage(s)(V): 5; Rating: Catalog; DatasheetVersion: SLLS159F; PackageVersion: revG, Feb-2011; PackageReference: PW16; PackageDescription: 16-Pin Plastic Thin Small Outline Package 5 x 4.4 mm Body ,0.65 mm Pitch; Mounting Technology: Surface Mount; Eco-Plan: Green (RoHS & no Sb/Br); Receivers Per Package: 2; # of TX/RX: 2 TX / 2 RX; ESD(kV): 2; Footprint: MC34051; Code_JEDEC: MO-153; ComponentLink1Description: Datasheet; ComponentLink1URL: http://www.ti.com/general/docs/lit/getliterature.tsp?genericPartNumber=SN75C1168&fileType=pdf; ComponentLink2Description: Package Specification; ComponentLink2URL: http://www.ti.com/lit/ml/mpds361/mpds361.pdf
footprint PW16_N (TSOP, 16-Leads, Body 5x4.4mm, Pitch 0.65mm, IPC Medium Density)
footprint PW16_L (TSOP, 16-Leads, Body 5x4.4mm, Pitch 0.65mm, IPC High Density)
footprint PW16_M (TSOP, 16-Leads, Body 5x4.4mm, Pitch 0.65mm, IPC Low Density)
pins: 1 1B (in), 2 1A (in), 3 1R (out), 4 1DE (in), 5 2R (out), 6 2A (in), 7 2B (in), 8 GND (power), 9 2D (in), 10 2Y (hiz), 11 2Z (hiz), 12 2DE (in), 13 1Z (hiz), 14 1Y (hiz), 15 1D (in), 16 VCC (power)

## SN75C1168PWRE4
designator U?
Dual Differential Driver and Receiver, 2 TX / 2 RX, 5V, 0 to 70 degC, 16-Pin TSSOP (PW), Green (RoHS & no Sb/Br); PartNumber: SN75C1168PWRE4; Manufacturer: Texas Instruments; SubFamily: RS-422; Drivers Per Package: 2; ICC(Max)(mA): 9; Supply Voltage(s)(V): 5; Rating: Catalog; DatasheetVersion: SLLS159F; PackageVersion: revG, Feb-2011; PackageReference: PW16; PackageDescription: 16-Pin Plastic Thin Small Outline Package 5 x 4.4 mm Body ,0.65 mm Pitch; Mounting Technology: Surface Mount; Eco-Plan: Green (RoHS & no Sb/Br); Receivers Per Package: 2; # of TX/RX: 2 TX / 2 RX; ESD(kV): 2; Footprint: MC34051; Code_JEDEC: MO-153; ComponentLink1Description: Datasheet; ComponentLink1URL: http://www.ti.com/general/docs/lit/getliterature.tsp?genericPartNumber=SN75C1168&fileType=pdf; ComponentLink2Description: Package Specification; ComponentLink2URL: http://www.ti.com/lit/ml/mpds361/mpds361.pdf
footprint PW16_N (TSOP, 16-Leads, Body 5x4.4mm, Pitch 0.65mm, IPC Medium Density)
footprint PW16_L (TSOP, 16-Leads, Body 5x4.4mm, Pitch 0.65mm, IPC High Density)
footprint PW16_M (TSOP, 16-Leads, Body 5x4.4mm, Pitch 0.65mm, IPC Low Density)
pins: 1 1B (in), 2 1A (in), 3 1R (out), 4 1DE (in), 5 2R (out), 6 2A (in), 7 2B (in), 8 GND (power), 9 2D (in), 10 2Y (hiz), 11 2Z (hiz), 12 2DE (in), 13 1Z (hiz), 14 1Y (hiz), 15 1D (in), 16 VCC (power)

## SN75C1168PWRG4
designator U?
Dual Differential Driver and Receiver, 2 TX / 2 RX, 5V, 0 to 70 degC, 16-Pin TSSOP (PW), Green (RoHS & no Sb/Br); PartNumber: SN75C1168PWRG4; Manufacturer: Texas Instruments; SubFamily: RS-422; Drivers Per Package: 2; ICC(Max)(mA): 9; Supply Voltage(s)(V): 5; Rating: Catalog; DatasheetVersion: SLLS159F; PackageVersion: revG, Feb-2011; PackageReference: PW16; PackageDescription: 16-Pin Plastic Thin Small Outline Package 5 x 4.4 mm Body ,0.65 mm Pitch; Mounting Technology: Surface Mount; Eco-Plan: Green (RoHS & no Sb/Br); Receivers Per Package: 2; # of TX/RX: 2 TX / 2 RX; ESD(kV): 2; Footprint: MC34051; Code_JEDEC: MO-153; ComponentLink1Description: Datasheet; ComponentLink1URL: http://www.ti.com/general/docs/lit/getliterature.tsp?genericPartNumber=SN75C1168&fileType=pdf; ComponentLink2Description: Package Specification; ComponentLink2URL: http://www.ti.com/lit/ml/mpds361/mpds361.pdf
footprint PW16_N (TSOP, 16-Leads, Body 5x4.4mm, Pitch 0.65mm, IPC Medium Density)
footprint PW16_L (TSOP, 16-Leads, Body 5x4.4mm, Pitch 0.65mm, IPC High Density)
footprint PW16_M (TSOP, 16-Leads, Body 5x4.4mm, Pitch 0.65mm, IPC Low Density)
pins: 1 1B (in), 2 1A (in), 3 1R (out), 4 1DE (in), 5 2R (out), 6 2A (in), 7 2B (in), 8 GND (power), 9 2D (in), 10 2Y (hiz), 11 2Z (hiz), 12 2DE (in), 13 1Z (hiz), 14 1Y (hiz), 15 1D (in), 16 VCC (power)

## SN75LBC170DB
designator U?
Triple Differential Transceiver, 0 to 70 degC, 16-Pin SSOP (DB), Green (RoHS & no Sb/Br); PartNumber: SN75LBC170DB; Manufacturer: Texas Instruments; SubFamily: RS-422; Drivers Per Package: 3; ICC(Max)(mA): 20; Supply Voltage(s)(Max)(V): 5; ESD(kV): 12; DatasheetVersion: SLLS459C; PackageVersion: revE, Dec-2001; PackageReference: DB16; PackageDescription: 16-Pin Plastic Small Outline Package, 6.2 x 5.3 mm Body, 0.65 mm Pitch; Mounting Technology: Surface Mount; Eco-Plan: Green (RoHS & no Sb/Br); Receivers Per Package: 3; Supply Voltage(s)(Min)(V): 5; Footprint: SN75ALS170; Code_JEDEC: MO-150; ComponentLink1Description: Datasheet; ComponentLink1URL: http://www.ti.com/general/docs/lit/getliterature.tsp?genericPartNumber=SN75LBC170&fileType=pdf; ComponentLink2Description: Package Specification; ComponentLink2URL: http://www.ti.com/lit/ml/msso002e/msso002e.pdf
footprint DB16_N (SOP, 16-Leads, Body 6.2x5.3mm, Pitch 0.65mm, IPC Medium Density)
footprint DB16_L (SOP, 16-Leads, Body 6.2x5.3mm, Pitch 0.65mm, IPC High Density)
footprint DB16_M (SOP, 16-Leads, Body 6.2x5.3mm, Pitch 0.65mm, IPC Low Density)
pins: 1 1D (io), 2 1DIR (in), 3 NC, 4 GND (power), 5 2D (io), 6 2DIR (in), 7 3D (io), 8 3DIR (in), 9 3A (io), 10 3B (io), 11 2A (io), 12 2B (io), 13 VCC (power), 14 NC, 15 1A (io), 16 1B (io)

## SN75LBC170DBG4
designator U?
Triple Differential Transceiver, 0 to 70 degC, 16-Pin SSOP (DB), Green (RoHS & no Sb/Br); PartNumber: SN75LBC170DBG4; Manufacturer: Texas Instruments; SubFamily: RS-422; Drivers Per Package: 3; ICC(Max)(mA): 20; Supply Voltage(s)(Max)(V): 5; ESD(kV): 12; DatasheetVersion: SLLS459C; PackageVersion: revE, Dec-2001; PackageReference: DB16; PackageDescription: 16-Pin Plastic Small Outline Package, 6.2 x 5.3 mm Body, 0.65 mm Pitch; Mounting Technology: Surface Mount; Eco-Plan: Green (RoHS & no Sb/Br); Receivers Per Package: 3; Supply Voltage(s)(Min)(V): 5; Footprint: SN75ALS170; Code_JEDEC: MO-150; ComponentLink1Description: Datasheet; ComponentLink1URL: http://www.ti.com/general/docs/lit/getliterature.tsp?genericPartNumber=SN75LBC170&fileType=pdf; ComponentLink2Description: Package Specification; ComponentLink2URL: http://www.ti.com/lit/ml/msso002e/msso002e.pdf
footprint DB16_N (SOP, 16-Leads, Body 6.2x5.3mm, Pitch 0.65mm, IPC Medium Density)
footprint DB16_L (SOP, 16-Leads, Body 6.2x5.3mm, Pitch 0.65mm, IPC High Density)
footprint DB16_M (SOP, 16-Leads, Body 6.2x5.3mm, Pitch 0.65mm, IPC Low Density)
pins: 1 1D (io), 2 1DIR (in), 3 NC, 4 GND (power), 5 2D (io), 6 2DIR (in), 7 3D (io), 8 3DIR (in), 9 3A (io), 10 3B (io), 11 2A (io), 12 2B (io), 13 VCC (power), 14 NC, 15 1A (io), 16 1B (io)

## SN75LBC170DBR
designator U?
Triple Differential Transceiver, 0 to 70 degC, 16-Pin SSOP (DB), Green (RoHS & no Sb/Br); PartNumber: SN75LBC170DBR; Manufacturer: Texas Instruments; SubFamily: RS-422; Drivers Per Package: 3; ICC(Max)(mA): 20; Supply Voltage(s)(Max)(V): 5; ESD(kV): 12; DatasheetVersion: SLLS459C; PackageVersion: revE, Dec-2001; PackageReference: DB16; PackageDescription: 16-Pin Plastic Small Outline Package, 6.2 x 5.3 mm Body, 0.65 mm Pitch; Mounting Technology: Surface Mount; Eco-Plan: Green (RoHS & no Sb/Br); Receivers Per Package: 3; Supply Voltage(s)(Min)(V): 5; Footprint: SN75ALS170; Code_JEDEC: MO-150; ComponentLink1Description: Datasheet; ComponentLink1URL: http://www.ti.com/general/docs/lit/getliterature.tsp?genericPartNumber=SN75LBC170&fileType=pdf; ComponentLink2Description: Package Specification; ComponentLink2URL: http://www.ti.com/lit/ml/msso002e/msso002e.pdf
footprint DB16_N (SOP, 16-Leads, Body 6.2x5.3mm, Pitch 0.65mm, IPC Medium Density)
footprint DB16_L (SOP, 16-Leads, Body 6.2x5.3mm, Pitch 0.65mm, IPC High Density)
footprint DB16_M (SOP, 16-Leads, Body 6.2x5.3mm, Pitch 0.65mm, IPC Low Density)
pins: 1 1D (io), 2 1DIR (in), 3 NC, 4 GND (power), 5 2D (io), 6 2DIR (in), 7 3D (io), 8 3DIR (in), 9 3A (io), 10 3B (io), 11 2A (io), 12 2B (io), 13 VCC (power), 14 NC, 15 1A (io), 16 1B (io)

## SN75LBC170DBRG4
designator U?
Triple Differential Transceiver, 0 to 70 degC, 16-Pin SSOP (DB), Green (RoHS & no Sb/Br); PartNumber: SN75LBC170DBRG4; Manufacturer: Texas Instruments; SubFamily: RS-422; Drivers Per Package: 3; ICC(Max)(mA): 20; Supply Voltage(s)(Max)(V): 5; ESD(kV): 12; DatasheetVersion: SLLS459C; PackageVersion: revE, Dec-2001; PackageReference: DB16; PackageDescription: 16-Pin Plastic Small Outline Package, 6.2 x 5.3 mm Body, 0.65 mm Pitch; Mounting Technology: Surface Mount; Eco-Plan: Green (RoHS & no Sb/Br); Receivers Per Package: 3; Supply Voltage(s)(Min)(V): 5; Footprint: SN75ALS170; Code_JEDEC: MO-150; ComponentLink1Description: Datasheet; ComponentLink1URL: http://www.ti.com/general/docs/lit/getliterature.tsp?genericPartNumber=SN75LBC170&fileType=pdf; ComponentLink2Description: Package Specification; ComponentLink2URL: http://www.ti.com/lit/ml/msso002e/msso002e.pdf
footprint DB16_N (SOP, 16-Leads, Body 6.2x5.3mm, Pitch 0.65mm, IPC Medium Density)
footprint DB16_L (SOP, 16-Leads, Body 6.2x5.3mm, Pitch 0.65mm, IPC High Density)
footprint DB16_M (SOP, 16-Leads, Body 6.2x5.3mm, Pitch 0.65mm, IPC Low Density)
pins: 1 1D (io), 2 1DIR (in), 3 NC, 4 GND (power), 5 2D (io), 6 2DIR (in), 7 3D (io), 8 3DIR (in), 9 3A (io), 10 3B (io), 11 2A (io), 12 2B (io), 13 VCC (power), 14 NC, 15 1A (io), 16 1B (io)

## SN75LBC171DB
designator U?
Triple Differential Transceiver, 5V, 0 to 70 degC, 20-Pin SSOP (DB), Green (RoHS & no Sb/Br); PartNumber: SN75LBC171DB; Manufacturer: Texas Instruments; SubFamily: RS-422; Drivers Per Package: 3; ICC(Max)(mA): 20; Supply Voltage(s)(Max)(V): 5; ESD(kV): 12; DatasheetVersion: SLLS460A; PackageVersion: revE, Dec-2001; PackageReference: DB20; PackageDescription: 20-Pin Plastic Small Outline Package, 7.2 x 5.3 mm Body, 0.65 mm Pitch; Mounting Technology: Surface Mount; Eco-Plan: Green (RoHS & no Sb/Br); Receivers Per Package: 3; Supply Voltage(s)(Min)(V): 5; Footprint: SN75ALS171; Code_JEDEC: MO-150; ComponentLink1Description: Datasheet; ComponentLink1URL: http://www.ti.com/general/docs/lit/getliterature.tsp?genericPartNumber=SN75LBC171&fileType=pdf; ComponentLink2Description: Package Specification; ComponentLink2URL: http://www.ti.com/lit/ml/msso002e/msso002e.pdf
footprint DB20_N (SOP, 20-Leads, Body 7.2x5.3mm, Pitch 0.65mm, IPC Medium Density)
footprint DB20_L (SOP, 20-Leads, Body 7.2x5.3mm, Pitch 0.65mm, IPC High Density)
footprint DB20_M (SOP, 20-Leads, Body 7.2x5.3mm, Pitch 0.65mm, IPC Low Density)
pins: 1 1R (hiz), 2 1DE (in), 3 1D (in), 4 GND (power), 5 GND (power), 6 2R (hiz), 7 2DE (in), 8 2D (in), 9 3R (hiz), 10 3DE (in), 11 3D (in), 12 3A (io), 13 3B (io), 14 2A (io), 15 2B (io), 16 VCC (power), 17 CDE (in), 18 ~{RE} (in), 19 1A (io), 20 1B (io)

## SN75LBC171DBG4
designator U?
Triple Differential Transceiver, +/-15kV IEC ESD, 3.3V, 0 to 70 degC, 16-Pin SSOP (DB), Green (RoHS & no Sb/Br); PartNumber: SN75LBC171DBG4; Manufacturer: Texas Instruments; SubFamily: RS-422; Drivers Per Package: 3; ICC(Max)(mA): 20; Supply Voltage(s)(Max)(V): 5; ESD(kV): 12; DatasheetVersion: SLLS460A; PackageVersion: revE, Dec-2001; PackageReference: DB20; PackageDescription: 20-Pin Plastic Small Outline Package, 7.2 x 5.3 mm Body, 0.65 mm Pitch; Mounting Technology: Surface Mount; Eco-Plan: Green (RoHS & no Sb/Br); Receivers Per Package: 3; Supply Voltage(s)(Min)(V): 5; Footprint: SN75ALS171; Code_JEDEC: MO-150; ComponentLink1Description: Datasheet; ComponentLink1URL: http://www.ti.com/general/docs/lit/getliterature.tsp?genericPartNumber=SN75LBC171&fileType=pdf; ComponentLink2Description: Package Specification; ComponentLink2URL: http://www.ti.com/lit/ml/msso002e/msso002e.pdf
footprint DB20_N (SOP, 20-Leads, Body 7.2x5.3mm, Pitch 0.65mm, IPC Medium Density)
footprint DB20_L (SOP, 20-Leads, Body 7.2x5.3mm, Pitch 0.65mm, IPC High Density)
footprint DB20_M (SOP, 20-Leads, Body 7.2x5.3mm, Pitch 0.65mm, IPC Low Density)
pins: 1 1R (hiz), 2 1DE (in), 3 1D (in), 4 GND (power), 5 GND (power), 6 2R (hiz), 7 2DE (in), 8 2D (in), 9 3R (hiz), 10 3DE (in), 11 3D (in), 12 3A (io), 13 3B (io), 14 2A (io), 15 2B (io), 16 VCC (power), 17 CDE (in), 18 ~{RE} (in), 19 1A (io), 20 1B (io)

## SN75LBC171DW
designator U?
Triple Differential Transceiver, 5V, 0 to 70 degC, 20-Pin SOIC (DW), Green (RoHS & no Sb/Br); PartNumber: SN75LBC171DW; Manufacturer: Texas Instruments; SubFamily: RS-422; Drivers Per Package: 3; ICC(Max)(mA): 20; Supply Voltage(s)(Max)(V): 5; ESD(kV): 12; DatasheetVersion: SLLS460A; PackageVersion: revG, Jan-2011; PackageReference: DW20; PackageDescription: 20-Pin Plastic Small Outline Integrated Circuit, 12.8 x 7.5 mm, Pitch 1.27 mm Pitch; Mounting Technology: Surface Mount; Eco-Plan: Green (RoHS & no Sb/Br); Receivers Per Package: 3; Supply Voltage(s)(Min)(V): 5; Footprint: SN75ALS171; Code_JEDEC: MS-013-AC; ComponentLink1Description: Datasheet; ComponentLink1URL: http://www.ti.com/general/docs/lit/getliterature.tsp?genericPartNumber=SN75LBC171&fileType=pdf; ComponentLink2Description: Package Specification; ComponentLink2URL: http://www.ti.com/lit/ml/mpds173a/mpds173a.pdf
footprint DW20_N (SOIC, 20-Leads, Body 12.8x7.5mm, Pitch 1.27mm, IPC Medium Density)
footprint DW20_L (SOIC, 20-Leads, Body 12.8x7.5mm, Pitch 1.27mm, IPC High Density)
footprint DW20_M (SOIC, 20-Leads, Body 12.8x7.5mm, Pitch 1.27mm, IPC Low Density)
pins: 1 1R (hiz), 2 1DE (in), 3 1D (in), 4 GND (power), 5 GND (power), 6 2R (hiz), 7 2DE (in), 8 2D (in), 9 3R (hiz), 10 3DE (in), 11 3D (in), 12 3A (io), 13 3B (io), 14 2A (io), 15 2B (io), 16 VCC (power), 17 CDE (in), 18 ~{RE} (in), 19 1A (io), 20 1B (io)

## SN75LBC171DWG4
designator U?
Triple Differential Transceiver, 5V, 0 to 70 degC, 20-Pin SOIC (DW), Green (RoHS & no Sb/Br); PartNumber: SN75LBC171DWG4; Manufacturer: Texas Instruments; SubFamily: RS-422; Drivers Per Package: 3; ICC(Max)(mA): 20; Supply Voltage(s)(Max)(V): 5; ESD(kV): 12; DatasheetVersion: SLLS460A; PackageVersion: revG, Jan-2011; PackageReference: DW20; PackageDescription: 20-Pin Plastic Small Outline Integrated Circuit, 12.8 x 7.5 mm, Pitch 1.27 mm Pitch; Mounting Technology: Surface Mount; Eco-Plan: Green (RoHS & no Sb/Br); Receivers Per Package: 3; Supply Voltage(s)(Min)(V): 5; Footprint: SN75ALS171; Code_JEDEC: MS-013-AC; ComponentLink1Description: Datasheet; ComponentLink1URL: http://www.ti.com/general/docs/lit/getliterature.tsp?genericPartNumber=SN75LBC171&fileType=pdf; ComponentLink2Description: Package Specification; ComponentLink2URL: http://www.ti.com/lit/ml/mpds173a/mpds173a.pdf
footprint DW20_N (SOIC, 20-Leads, Body 12.8x7.5mm, Pitch 1.27mm, IPC Medium Density)
footprint DW20_L (SOIC, 20-Leads, Body 12.8x7.5mm, Pitch 1.27mm, IPC High Density)
footprint DW20_M (SOIC, 20-Leads, Body 12.8x7.5mm, Pitch 1.27mm, IPC Low Density)
pins: 1 1R (hiz), 2 1DE (in), 3 1D (in), 4 GND (power), 5 GND (power), 6 2R (hiz), 7 2DE (in), 8 2D (in), 9 3R (hiz), 10 3DE (in), 11 3D (in), 12 3A (io), 13 3B (io), 14 2A (io), 15 2B (io), 16 VCC (power), 17 CDE (in), 18 ~{RE} (in), 19 1A (io), 20 1B (io)

## SN75157D
designator U?
Dual Differential Line Receiver, 0 TX / 2 RX, 5V, 0 to 70 degC, 8-Pin SOIC (D), Green (RoHS & no Sb/Br); PartNumber: SN75157D; Manufacturer: Texas Instruments; SubFamily: RS-422; Receivers Per Package: 2; ICC(Max)(mA): 50; Supply Voltage(s)(V): 5; Rating: Catalog; DatasheetVersion: SLLS084C; PackageVersion: revM, Jun-2011; PackageReference: D8; PackageDescription: 8-Pin Plastic Small Outline Integrated Circuit, 4.9 x 3.9 mm, Pitch 1.27 mm Pitch; Mounting Technology: Surface Mount; Eco-Plan: Green (RoHS & no Sb/Br); # of TX/RX: 0 TX / 2 RX; ESD(kV): 2; Footprint: SN75157; Isolated: No; Code_JEDEC: MS-012AA; ComponentLink1Description: Datasheet; ComponentLink1URL: http://www.ti.com/general/docs/lit/getliterature.tsp?genericPartNumber=SN75157&fileType=pdf; ComponentLink2Description: Package Specification; ComponentLink2URL: http://www.ti.com/lit/ml/msoi002j/msoi002j.pdf
footprint D8_N (SOIC, 8-Leads, Body 4.9x3.9mm, Pitch 1.27mm, IPC Medium Density)
footprint D8_L (SOIC, 8-Leads, Body 4.9x3.9mm, Pitch 1.27mm, IPC High Density)
footprint D8_M (SOIC, 8-Leads, Body 4.9x3.9mm, Pitch 1.27mm, IPC Low Density)
pins: 1 1IN+ (in), 2 1OUT (out), 3 2OUT (out), 4 GND (power), 5 2IN- (in), 6 2IN+ (in), 7 1IN- (in), 8 VCC (power)

## SN75157DE4
designator U?
Dual Differential Line Receiver, 0 TX / 2 RX, 5V, 0 to 70 degC, 8-Pin SOIC (D), Green (RoHS & no Sb/Br); PartNumber: SN75157DE4; Manufacturer: Texas Instruments; SubFamily: RS-422; Receivers Per Package: 2; ICC(Max)(mA): 50; Supply Voltage(s)(V): 5; Rating: Catalog; DatasheetVersion: SLLS084C; PackageVersion: revM, Jun-2011; PackageReference: D8; PackageDescription: 8-Pin Plastic Small Outline Integrated Circuit, 4.9 x 3.9 mm, Pitch 1.27 mm Pitch; Mounting Technology: Surface Mount; Eco-Plan: Green (RoHS & no Sb/Br); # of TX/RX: 0 TX / 2 RX; ESD(kV): 2; Footprint: SN75157; Isolated: No; Code_JEDEC: MS-012AA; ComponentLink1Description: Datasheet; ComponentLink1URL: http://www.ti.com/general/docs/lit/getliterature.tsp?genericPartNumber=SN75157&fileType=pdf; ComponentLink2Description: Package Specification; ComponentLink2URL: http://www.ti.com/lit/ml/msoi002j/msoi002j.pdf
footprint D8_N (SOIC, 8-Leads, Body 4.9x3.9mm, Pitch 1.27mm, IPC Medium Density)
footprint D8_L (SOIC, 8-Leads, Body 4.9x3.9mm, Pitch 1.27mm, IPC High Density)
footprint D8_M (SOIC, 8-Leads, Body 4.9x3.9mm, Pitch 1.27mm, IPC Low Density)
pins: 1 1IN+ (in), 2 1OUT (out), 3 2OUT (out), 4 GND (power), 5 2IN- (in), 6 2IN+ (in), 7 1IN- (in), 8 VCC (power)